# Altium schematic symbol library gps-neo6m.SchLib: 1 symbol
Pins are listed as number, name and electrical type; pins without a type are passive.

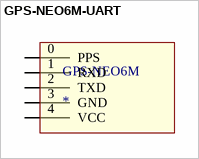
[diagram p0: symbol GPS-NEO6M-UART]

## GPS-NEO6M-UART
designator GPS-NEO6M
footprint GPS-NEO6M-UART
pins: 0 PPS, 1 RXD, 2 TXD, 3 GND, 4 VCC